# EAGLE library part ATMEGA85 (library FSAE Electric)
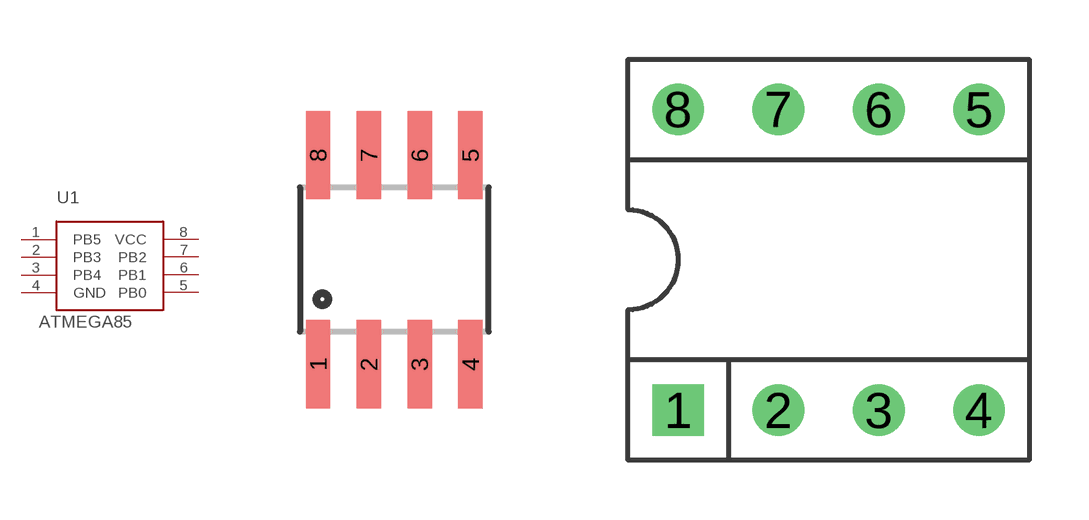
[diagram p64: symbol with the pads of SO-8; footprints SO-8, PDIP-8]

Designator prefix U1

## ATMEGA85_SO8 (PARTNO: ATTINY85-20SUR)  [SO-8]
1  PB5
2  PB3
3  PB4
4  GND
5  PB0
6  PB1
7  PB2
8  VCC

## ATMEGA85_DIL8 (PARTNO: ATTINY85V-10PU)  [PDIP-8]
Pads as for SO-8

## Footprint SO-8 (pad centres in mm)
smd 0.61 x 2.21: 1 -1.905,-2.616; 2 -0.635,-2.616; 3 0.635,-2.616; 4 1.905,-2.616; 5 1.905,2.616; 6 0.635,2.616; 7 -0.635,2.616; 8 -1.905,2.616

## Footprint PDIP-8 (pad centres in mm)
drill 0.8 square: 1 -3.81,-3.81
drill 0.8: 2 -1.27,-3.81; 3 1.27,-3.81; 4 3.81,-3.81; 5 3.81,3.81; 6 1.27,3.81; 7 -1.27,3.81; 8 -3.81,3.81